# Altium schematic symbol library solar1.SchLib: 4 symbols
Pins are listed as number, name and electrical type; pins without a type are passive.

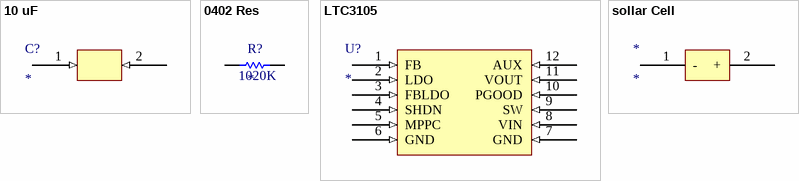
[diagram p0: symbols 10 uF to sollar Cell]

## 10 uF
designator C?
Value: 10uF; Footprint: 0603
footprint CAP 10 uF (Chip Capacitor, 2-Leads, Body 0.90x0.48mm, IPC Medium Density)
pins: 1 (in), 2 (in)

## 0402 Res
designator R?  value 1020K
footprint RESC1005X04N (Chip Resistor, 2-Leads, Body 1.00x0.50mm, IPC Medium Density)
pins: 1, 2

## LTC3105
designator U?
footprint LTC3105 (SOIC, 12-Leads, Body 2.07x1.55mm, Pitch 1.27mm, IPC Medium Density)
pins: 1 FB (in), 2 LDO (in), 3 FBLDO (in), 4 SHDN (in), 5 MPPC (in), 6 GND (in), 7 GND (in), 8 VIN (in), 9 SW (in), 10 PGOOD (in), 11 VOUT (in), 12 AUX (in)

## sollar Cell
designator *
footprint Solar_cell
pins: 1 - (power), 2 + (power)